# Altium schematic symbol library Connectors$.SchLib: 17 symbols
Pins are listed as number, name and electrical type; pins without a type are passive.

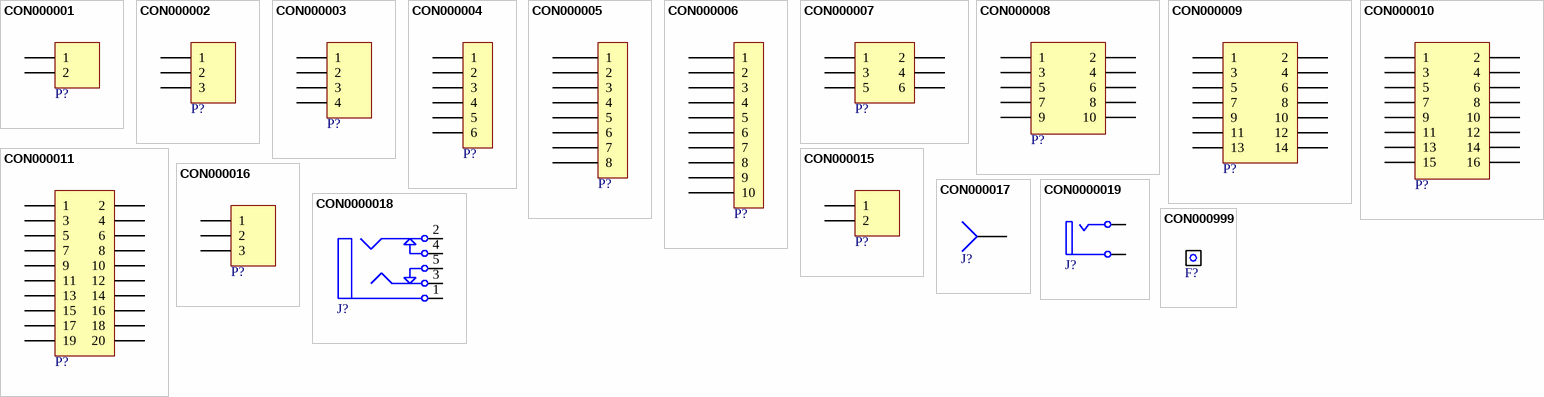
[diagram p0: symbols CON000001 to CON000999]

## CON000001
designator P?, comment 2 Way  (value not drawn)
HEADER POLARISED 2WAY TH; Manufactuer: GTK; Manufacturer-PN: 600102ST; UoA Stock#: CON000001; Assembly Method: Through hole; Item Type: Item; Path: ece/ts/Lists/Stock Inventory; Value: 2 Way; Size/Package: 2.54 Radial; Datasheet Link: http://share.engineering.auckland.ac.nz/ece/ts/Student%20Documents/polarised_connectors.pdf; Supplier1: Elecon; Supplier1-PN: YY3N02; Supplier2: Active Components; Supplier2-PN: 600102ST; Component Type: NA; Category: Connector; Status: Active
footprint ECE-600102STTH
pins: 1, 2

## CON000002
designator P?, comment 3 Way  (value not drawn)
HEADER POLARISED 3WAY TH; Manufactuer: GTK; Manufacturer-PN: 600103ST; UoA Stock#: CON000002; Assembly Method: Through hole; Item Type: Item; Path: ece/ts/Lists/Stock Inventory; Value: 3 Way; Size/Package: 2.54 Radial; Datasheet Link: http://share.engineering.auckland.ac.nz/ece/ts/Student%20Documents/polarised_connectors.pdf; Supplier1: Elecon; Supplier1-PN: YY3N03; Supplier2: Active Components; Supplier2-PN: 600103ST; Component Type: NA; Category: Connector; Status: Active
footprint ECE-600103STTH
pins: 1, 2, 3

## CON000003
designator P?, comment 4 Way  (value not drawn)
HEADER POLARISED 4WAY TH; Manufactuer: GTK; Manufacturer-PN: 600104ST; UoA Stock#: CON000003; Assembly Method: Through hole; Item Type: Item; Path: ece/ts/Lists/Stock Inventory; Value: 4 Way; Size/Package: 2.54 Radial; Datasheet Link: http://share.engineering.auckland.ac.nz/ece/ts/Student%20Documents/polarised_connectors.pdf; Supplier1: Elecon; Supplier1-PN: YY3N04; Supplier2: Active Components; Supplier2-PN: 600104ST; Component Type: NA; Category: Connector; Status: Active
footprint ECE-600104STTH
pins: 1, 2, 3, 4

## CON000004
designator P?, comment 6 Way  (value not drawn)
HEADER POLARISED 6WAY TH; Manufactuer: GTK; Manufacturer-PN: 600106ST; UoA Stock#: CON000004; Assembly Method: Through hole; Item Type: Item; Path: ece/ts/Lists/Stock Inventory; Value: 6 Way; Size/Package: 2.54 Radial; Datasheet Link: http://share.engineering.auckland.ac.nz/ece/ts/Student%20Documents/polarised_connectors.pdf; Supplier1: Elecon; Supplier1-PN: YY3N06; Supplier2: Active Components; Supplier2-PN: 600106ST; Component Type: NA; Category: Connector; Status: Active
footprint ECE-600106STTH
pins: 1, 2, 3, 4, 5, 6

## CON000005
designator P?, comment 8 Way  (value not drawn)
HEADER POLARISED 8WAY TH; Manufactuer: GTK; Manufacturer-PN: 600108ST; UoA Stock#: CON000005; Assembly Method: Through hole; Item Type: Item; Path: ece/ts/Lists/Stock Inventory; Value: 8 Way; Size/Package: 2.54 Radial; Datasheet Link: http://share.engineering.auckland.ac.nz/ece/ts/Student%20Documents/polarised_connectors.pdf; Supplier1: Elecon; Supplier1-PN: YY3N08; Supplier2: Active Components; Supplier2-PN: 600108ST; Component Type: NA; Category: Connector; Status: Active
footprint ECE-600108STTH
pins: 1, 2, 3, 4, 5, 6, 7, 8

## CON000006
designator P?, comment 10 Way  (value not drawn)
HEADER POLARISED 10WAY TH; Manufactuer: GTK; Manufacturer-PN: 600110ST; UoA Stock#: CON000006; Assembly Method: Through hole; Item Type: Item; Path: ece/ts/Lists/Stock Inventory; Value: 10 Way; Size/Package: 2.54 Radial; Datasheet Link: http://share.engineering.auckland.ac.nz/ece/ts/Student%20Documents/polarised_connectors.pdf; Supplier1: Elecon; Supplier1-PN: YY3N10; Supplier2: Active Components; Supplier2-PN: 600110ST; Component Type: NA; Category: Connector; Status: Active
footprint ECE-600110STTH
pins: 1, 2, 3, 4, 5, 6, 7, 8, 9, 10

## CON000007
designator P?, comment 3 X 2 Way  (value not drawn)
IDC PLUG 6 WAY TH; Manufactuer: FCI; Manufacturer-PN: 71600-006LF; UoA Stock#: CON000007; Value: 3 X 2 IDC; Assembly Method: Through hole; Item Type: Item; Path: ece/ts/Lists/Stock Inventory; Size/Package: 2.54 Radial; Datasheet Link: http://share.engineering.auckland.ac.nz/ece/ts/Student%20Documents/IDC-6way.pdf; Supplier1: Digikey; Supplier1-PN: 609-2841-ND; Component Type: NA; Category: Connector; Status: Active
footprint ECE-BHDR2X3TH
pins: 1, 2, 3, 4, 5, 6

## CON000008
designator P?, comment 5 X 2 IDC  (value not drawn)
IDC PLUG 10 WAY TH; Manufactuer: Mantech; Manufacturer-PN: YRNW10; UoA Stock#: CON000008; Assembly Method: Through hole; Item Type: Item; Path: ece/ts/Lists/Stock Inventory; Value: 5 X 2 IDC; Size/Package: 2.54 pitch; Datasheet Link: http://share.engineering.auckland.ac.nz/ece/ts/Student%20Documents/IDC-box%20headers.pdf; Supplier1: Elecon; Supplier1-PN: YRNW10; Component Type: NA; Category: Connector; Status: Active
footprint ECE-BHDR-2X5TH
pins: 1, 2, 3, 4, 5, 6, 7, 8, 9, 10

## CON000009
designator P?, comment 7 X 2 IDC  (value not drawn)
IDC PLUG 14 WAY TH; Manufactuer: Mantech; Manufacturer-PN: YRNW14; UoA Stock#: CON000009; Assembly Method: Through hole; Item Type: Item; Path: ece/ts/Lists/Stock Inventory; Value: 7 X 2 IDC; Size/Package: 2.54 pitch; Datasheet Link: http://share.engineering.auckland.ac.nz/ece/ts/Student%20Documents/IDC-box%20headers.pdf; Supplier1: Elecon; Supplier1-PN: YRNW14; Component Type: NA; Category: Connector; Status: Active
footprint ECE-BHDR-2X7TH
pins: 1, 2, 3, 4, 5, 6, 7, 8, 9, 10, 11, 12, 13, 14

## CON000010
designator P?, comment 8 X 2 IDC  (value not drawn)
IDC PLUG 16 WAY TH; Manufactuer: Mantech; Manufacturer-PN: YRNW16; UoA Stock#: CON000010; Assembly Method: Through hole; Item Type: Item; Path: ece/ts/Lists/Stock Inventory; Value: 8 X 2 IDC; Size/Package: 2.54 pitch; Datasheet Link: http://share.engineering.auckland.ac.nz/ece/ts/Student%20Documents/IDC-box%20headers.pdf; Supplier1: Elecon; Supplier1-PN: YRNW16; Component Type: NA; Category: Connector; Status: Active
footprint ECE-BHDR-2X8TH
pins: 1, 2, 3, 4, 5, 6, 7, 8, 9, 10, 11, 12, 13, 14, 15, 16

## CON000011
designator P?, comment 10 X 2 IDC  (value not drawn)
IDC PLUG 20 WAY TH; Manufactuer: Mantech; Manufacturer-PN: YRNW20; UoA Stock#: CON000011; Assembly Method: Through hole; Item Type: Item; Path: ece/ts/Lists/Stock Inventory; Value: 10 X 2 IDC; Size/Package: 2.54 pitch; Datasheet Link: http://share.engineering.auckland.ac.nz/ece/ts/Student%20Documents/IDC-box%20headers.pdf; Supplier1: Elecon; Supplier1-PN: YRNW20; Component Type: NA; Category: Connector; Status: Active
footprint ECE-BHDR-2X10TH
pins: 1, 2, 3, 4, 5, 6, 7, 8, 9, 10, 11, 12, 13, 14, 15, 16, 17, 18, 19, 20

## CON000015
designator P?, comment 2 way  (value not drawn)
CON SCREW TERMINAL 2WAY TH; Manufactuer: SK; UoA Stock#: CON000015; Assembly Method: Through hole; Item Type: Item; Path: ece/ts/Lists/Stock Inventory; Value: 2 way; Size/Package: 5.08 Pitch; Datasheet Link: http://share.engineering.auckland.ac.nz/ece/ts/Student%20Documents/screw_terminal.pdf; Supplier1: Electus; Supplier1-PN: HM3172; Component Type: NA; Category: Connector; Status: Active
footprint ECE-TER2-0.2TH
pins: 1, 2

## CON000016
designator P?, comment 3 Way  (value not drawn)
CON SCREW TERMINAL 3WAY TH; Manufactuer: SK; UoA Stock#: CON000016; Assembly Method: Through hole; Item Type: Item; Path: ece/ts/Lists/Stock Inventory; Value: 3 Way; Size/Package: 5.08 Pitch; Datasheet Link: http://share.engineering.auckland.ac.nz/ece/ts/Student%20Documents/screw_terminal.pdf; Supplier1: Electus; Supplier1-PN: HM3173; Component Type: NA; Category: Connector; Status: Active
footprint ECE-TER3-0.2TH
pins: 1, 2, 3

## CON000017
designator J?, comment TEST PIN  (value not drawn)
UoA Stock#: CON000017; Value: 1 way; Assembly Method: Through hole; Item Type: Item; Path: ece/ts/Lists/Stock Inventory; Component Type: NA; Category: Connector; Status: Active
footprint ECE-HDR1TH
pins: 1

## CON0000018
designator J?, comment Stereo Jack FEMALE  (value not drawn)
PHONEJACK STEREO FEMALE; UoA Stock#: CON0000018; Assembly Method: Through hole; Item Type: Item; Path: ece/ts/Lists/Stock Inventory; Value: Stereo Jack; Supplier1: RS Components; Supplier1-PN: 513-0421; Component Type: NA; Category: Connector; Status: Active
footprint ECE-phonejackStereo
pins: 1, 2, 3, 4, 5

## CON0000019
designator J?, comment Mono Jack  (value not drawn)
PHONEJACK MONO FEMALE; UoA Stock#: CON0000019; Assembly Method: Through hole; Item Type: Item; Path: ece/ts/Lists/Stock Inventory; Value: Mono Jack; Component Type: NA; Category: Connector; Status: Active
footprint ece-PHONEJACK/6-V2
pins: 1 T "Tip", 2 S "Sleeve (Ground)"

## CON000999
designator F?, comment 1 WAY  (value not drawn)
FIDUCIAL; Manufactuer: NA; UoA Stock#: CON000999; Assembly Method: Surface Mount; Item Type: Item; Path: ece/ts/Lists/Stock Inventory; LatestRevisionDate: 17-Jul-2002; LatestRevisionNote: Re-released for DXP Platform.; Publisher: Altium Limited; Value: 1 WAY; Size/Package: 1MM; Manufacturer-PN: NA; Supplier1: NA; Supplier1-PN: NA; Category: Connector; Status: Active
footprint ECE-FIDUCIAL